# EAGLE library part SLA7026 (library _others)
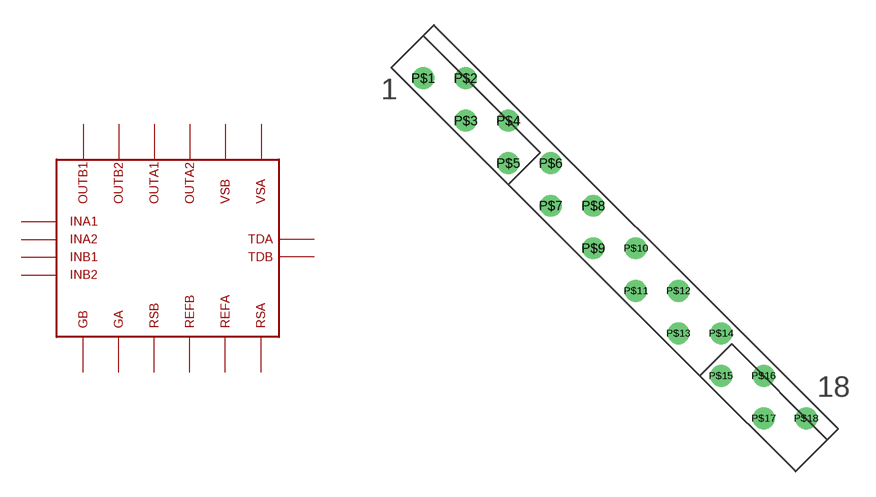
[diagram p1: symbol with the pads of SLA7026; footprint SLA7026]

Designator prefix IC

## SLA7026  [SLA7026]
P$1  P$1
P$2  P$2
P$3  P$3
P$4  P$4
P$5  P$5
P$6  P$6
P$7  P$7
P$8  P$8
P$9  P$9
P$10  P$10
P$11  P$11
P$12  P$12
P$13  P$13
P$14  P$14
P$15  P$15
P$16  P$16
P$17  P$17
P$18  P$18

## Footprint SLA7026 (pad centres in mm)
Small molded power package ZIP-type 23-pin SLA package Source: 2821003.pdf
drill 0.8: P$1 -13.97,6.35; P$2 -11.43,6.35; P$3 -11.43,3.81; P$4 -8.89,3.81; P$5 -8.89,1.27; P$6 -6.35,1.27; P$7 -6.35,-1.27; P$8 -3.81,-1.27; P$9 -3.81,-3.81; P$10 -1.27,-3.81; P$11 -1.27,-6.35; P$12 1.27,-6.35; P$13 1.27,-8.89; P$14 3.81,-8.89; P$15 3.81,-11.43; P$16 6.35,-11.43; P$17 6.35,-13.97; P$18 8.89,-13.97